# EAGLE library part BQ32000DR (library IC)
IC RTC CLK/CALENDAR I2C 8-SOIC Manufacturer's datasheet <http://www.ti.com/general/docs/suppproductinfo.tsp?distId=10&gotoUrl=http%3A%2F%2Fwww.ti.com%2Flit%2Fgpn%2Fbq32000>
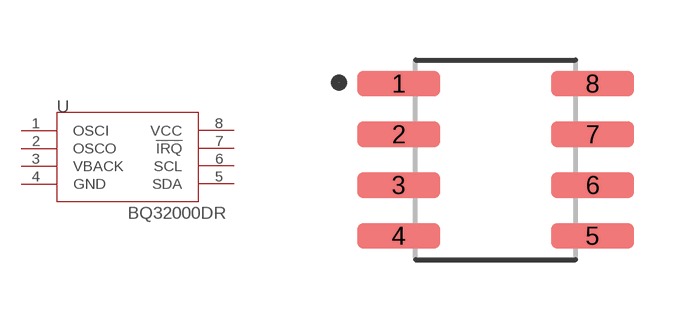
[diagram p6: symbol with the pads of SOIC-8N; footprint SOIC-8N]

Designator prefix U

## BQ32000DR (CREATED_BY: PCBLayout.com; DIGIKEY_PART_NUMBER: 296-24583-1-ND; MANUFACTURER: Texas Instruments; MPN: BQ32000DR; PACKAGE: 8-SOIC)  [SOIC-8N]
1  OSCI  in
2  OSCO  out
3  VBACK  pas
4  GND  pwr
5  SDA
6  SCL  in
7  !IRQ  out
8  VCC  pwr

## Footprint SOIC-8N (pad centres in mm)
Small Outline IC (SOIC), 1.27 mm pitch; 8 pin, 4.90 mm L X 3.90 mm W X 1.75 mm H body PCB Libraries Packages
smd 2.07 x 0.65: 1 -2.425,1.905; 2 -2.425,0.635; 3 -2.425,-0.635; 4 -2.425,-1.905; 5 2.425,-1.905; 6 2.425,-0.635; 7 2.425,0.635; 8 2.425,1.905